# Altium integrated library 0402ZD102KAT2A.IntLib: 1 symbol
Pins are listed as number, name and electrical type; pins without a type are passive.

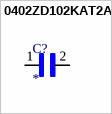
[diagram p0: symbol 0402ZD102KAT2A]

## 0402ZD102KAT2A
designator C?
Ceramic Multilayer Capacitor; Capacitor Type:General Purpose; Capacitance:1000pF; Capacitance Tolerance:Â± 10%; Voltage Rating:10VDC; Capacitor Dielectric Type:Multilayer Ceramic; Package/Case:0402; Termination Type:SMD ;RoHS Compliant: Yes; MP: 0402ZD102KAT2A; Package: None; Price: None; Value: *; Availability: Unavailable
footprint CAPC1005X56N
pins: 1, 2